# Altium footprint library PcbLib.PcbLib: 13 footprints
Each footprint in its own frame and in the unit in brackets; x right, y up, seen from the top. Pads: shape width x height; smd on the part's side, far side on the other; paste and mask are expansions set on the pad; w line width, h text height; cw(c..) or ccw(c..) is an arc to the next point about the centre after c.
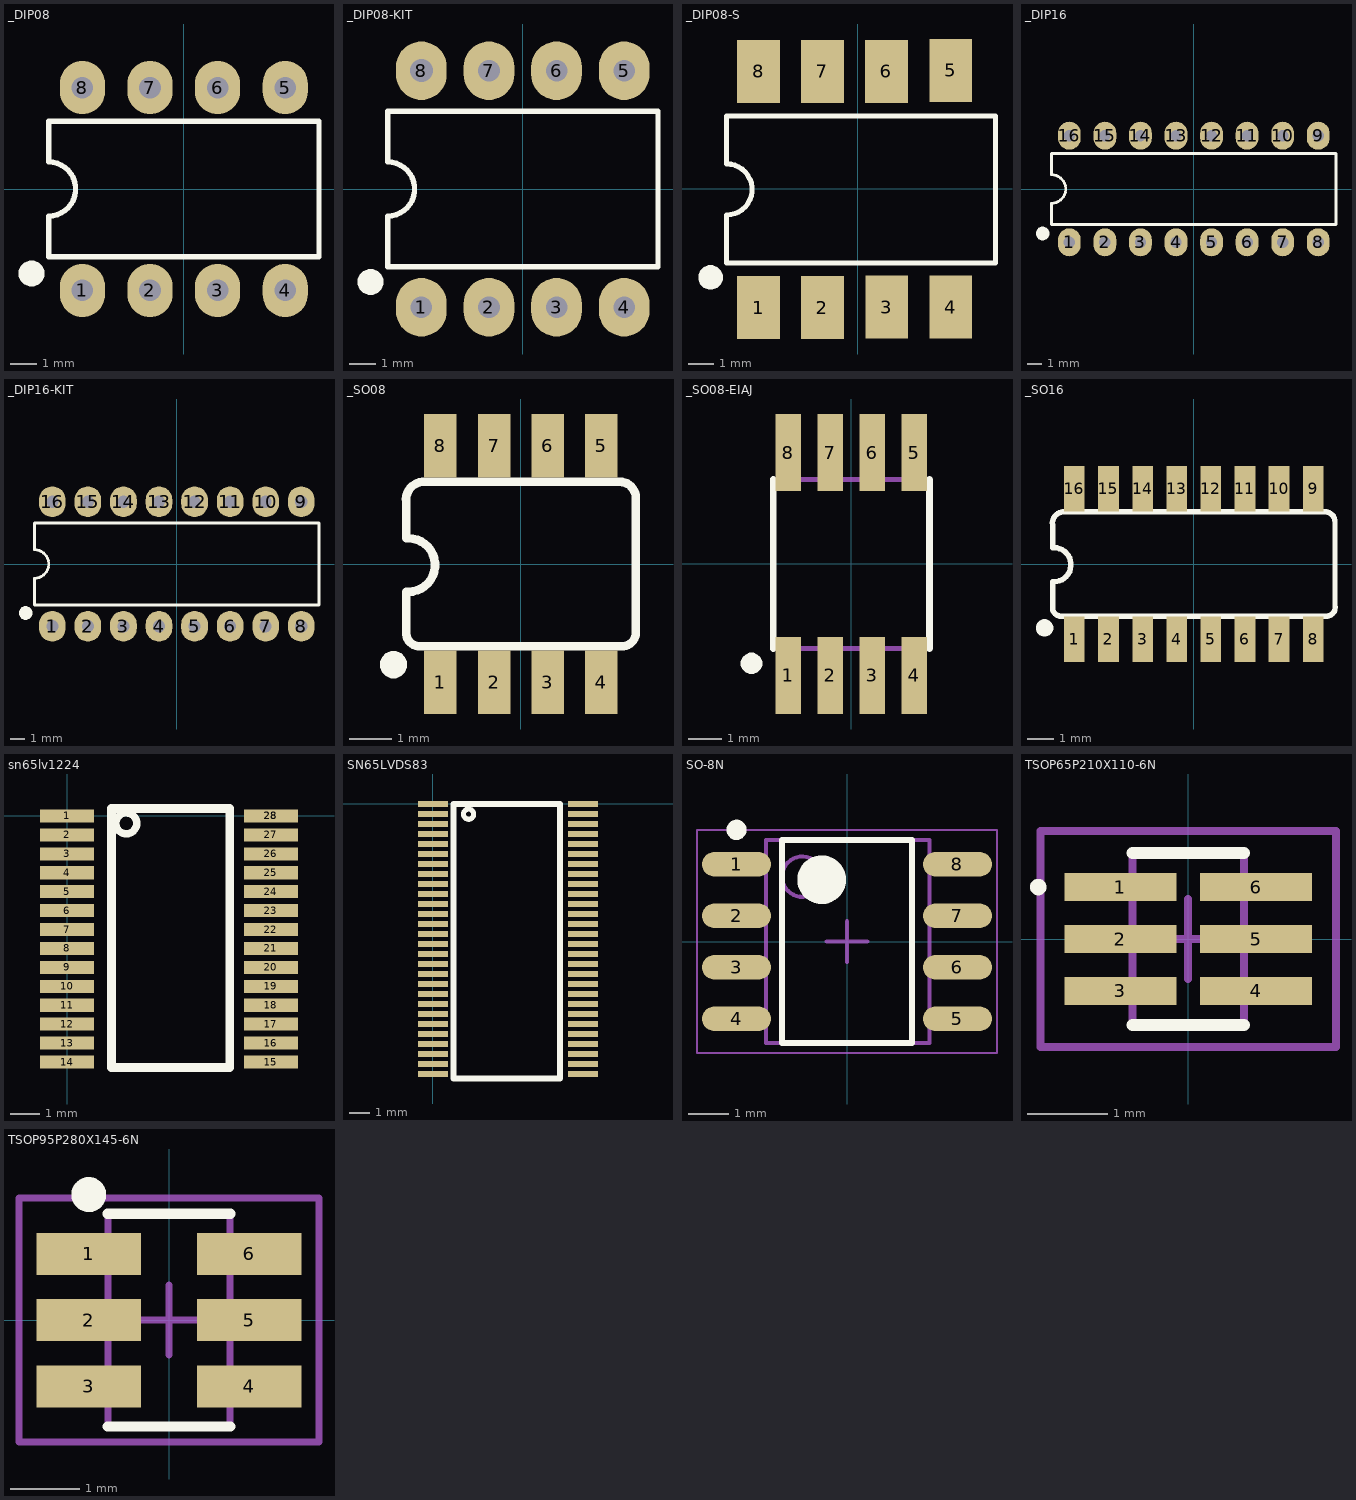
[diagram p0: the footprints below, top view; thin cyan lines are the x and y axes]

## _DIP08 [mm]
pads (8):
  oval 1.7x2 hole 0.813: 1(-3.81,-3.81) 2(-1.27,-3.81) 3(1.27,-3.81) 4(3.81,-3.81) 5(3.81,3.81) 6(1.27,3.81) 7(-1.27,3.81) 8(-3.81,3.81)
Top Overlay:
  region: -6.191,-3.175 -6.191,-3.08 -6.119,-2.905 -5.985,-2.771 -5.81,-2.699 -5.715,-2.699 -5.62,-2.699 -5.445,-2.771 -5.311,-2.905 -5.239,-3.08 -5.239,-3.175 -5.239,-3.27 -5.311,-3.445 -5.445,-3.579 -5.62,-3.651 -5.715,-3.651 -5.81,-3.651 -5.985,-3.579 -6.119,-3.445 -6.191,-3.27
  lines w0.203: -5.08,-2.54 -5.08,-1.016 ccw(c-5.08,0) -5.08,1.016 -5.08,2.54 5.08,2.54 5.08,-2.54 -5.08,-2.54

## _DIP08-KIT [mm]
pads (8):
  oval 1.905x2.2 hole 0.813: 1(-3.81,-4.445) 2(-1.27,-4.445) 3(1.27,-4.445) 4(3.81,-4.445) 5(3.81,4.445) 6(1.27,4.445) 7(-1.27,4.445)
  oval 1.905x2.2 hole 0.864: 8(-3.81,4.445)
Top Overlay:
  region: -6.191,-3.492 -6.191,-3.398 -6.119,-3.223 -5.985,-3.089 -5.81,-3.016 -5.715,-3.016 -5.62,-3.016 -5.445,-3.089 -5.311,-3.223 -5.239,-3.398 -5.239,-3.492 -5.239,-3.587 -5.311,-3.762 -5.445,-3.896 -5.62,-3.969 -5.715,-3.969 -5.81,-3.969 -5.985,-3.896 -6.119,-3.762 -6.191,-3.587
  lines w0.203: -5.08,-2.921 5.08,-2.921 5.08,2.921 -5.08,2.921 -5.08,1.016 cw(c-5.08,0) -5.08,-1.016 -5.08,-2.921
Top Solder:
  circle w0: c3.81,-4.445 r0.432
  circle w0: c1.27,-4.445 r0.432
  circle w0: c-1.27,-4.445 r0.432
  circle w0: c-3.81,-4.445 r0.432
  circle w0: c3.81,4.445 r0.432
  circle w0: c1.27,4.445 r0.432
  circle w0: c-1.27,4.445 r0.432
  circle w0: c-3.81,4.445 r0.432
Bottom Solder:
  circle w0: c3.81,-4.445 r1.067
  circle w0: c1.27,-4.445 r1.067
  circle w0: c-1.27,-4.445 r1.067
  circle w0: c-3.81,-4.445 r1.067
  circle w0: c3.81,4.445 r1.067
  circle w0: c1.27,4.445 r1.067
  circle w0: c-1.27,4.445 r1.067
  circle w0: c-3.81,4.445 r1.067

## _DIP08-S [mm]
pads (8):
  rect 1.7x2.5 smd: 1(-3.95,-4.718) 2(-1.41,-4.718) 3(1.143,-4.699) 4(3.683,-4.699) 5(3.683,4.699) 6(1.13,4.664) 7(-1.41,4.664) 8(-3.95,4.664)
Top Overlay:
  region: -6.331,-3.52 -6.331,-3.425 -6.259,-3.25 -6.125,-3.116 -5.95,-3.043 -5.855,-3.043 -5.76,-3.043 -5.585,-3.116 -5.451,-3.25 -5.379,-3.425 -5.379,-3.52 -5.379,-3.614 -5.451,-3.789 -5.585,-3.923 -5.76,-3.996 -5.855,-3.996 -5.95,-3.996 -6.125,-3.923 -6.259,-3.789 -6.331,-3.614
  lines w0.203: -5.22,-2.948 -5.22,-1.043 ccw(c-5.22,-0.027) -5.22,0.989 -5.22,2.894 5.461,2.894 5.461,-2.948 -5.22,-2.948
Top Solder:
  circle w0: c-3.95,4.664 r0.432
  circle w0: c-1.41,4.664 r0.432
  circle w0: c-3.95,-4.718 r0.432
  circle w0: c-1.41,-4.718 r0.432

## _DIP16 [mil]
pads (16):
  oval 64x78.74 hole 32: 1(-350,-150) 2(-250,-150) 3(-150,-150) 4(-50,-150) 5(50,-150) 6(150,-150) 7(250,-150) 8(350,-150) 9(350,150) 10(250,150) 11(150,150) 12(50,150) 13(-50,150) 14(-150,150) 15(-250,150) 16(-350,150)
Top Overlay:
  region: -443.75,-125 -443.75,-121.27 -440.9,-114.38 -435.62,-109.1 -428.73,-106.25 -425,-106.25 -421.27,-106.25 -414.38,-109.1 -409.1,-114.38 -406.25,-121.27 -406.25,-125 -406.25,-128.73 -409.1,-135.62 -414.38,-140.9 -421.27,-143.75 -425,-143.75 -428.73,-143.75 -435.62,-140.9 -440.9,-135.62 -443.75,-128.73
  lines w8: -400,-100 -400,-40 ccw(c-400,0) -400,40 -400,100 400,100 400,-100 -400,-100

## _DIP16-KIT [mm]
pads (16):
  oval 1.905x2.2 hole 0.864: 1(-8.89,-4.445) 2(-6.35,-4.445) 3(-3.81,-4.445) 4(-1.27,-4.445) 5(1.27,-4.445) 6(3.81,-4.445) 7(6.35,-4.445) 8(8.89,-4.445) 9(8.89,4.445) 10(6.35,4.445) 11(3.81,4.445) 12(1.27,4.445) 13(-1.27,4.445) 14(-3.81,4.445) 15(-6.35,4.445) 16(-8.89,4.445)
Top Overlay:
  region: -11.271,-3.492 -11.271,-3.398 -11.199,-3.223 -11.065,-3.089 -10.89,-3.016 -10.795,-3.016 -10.7,-3.016 -10.525,-3.089 -10.391,-3.223 -10.319,-3.398 -10.319,-3.492 -10.319,-3.587 -10.391,-3.762 -10.525,-3.896 -10.7,-3.969 -10.795,-3.969 -10.89,-3.969 -11.065,-3.896 -11.199,-3.762 -11.271,-3.587
  lines w0.203: -10.16,-2.921 10.16,-2.921 10.16,2.921 -10.16,2.921 -10.16,1.016 cw(c-10.16,0) -10.16,-1.016 -10.16,-2.921
Top Solder:
  circle w0: c-8.89,4.445 r0.432
  circle w0: c-6.35,4.445 r0.432
  circle w0: c-3.81,4.445 r0.432
  circle w0: c-3.81,4.445 r0.432
  circle w0: c-8.89,-4.445 r0.432
  circle w0: c6.35,-4.445 r0.432
  circle w0: c3.81,-4.445 r0.432
  circle w0: c1.27,-4.445 r0.432
  circle w0: c-1.27,-4.445 r0.432
  circle w0: c-3.81,-4.445 r0.432
  circle w0: c-6.35,-4.445 r0.432
  circle w0: c8.89,-4.445 r0.432
  circle w0: c8.89,4.445 r0.432
  circle w0: c6.35,4.445 r0.432
  circle w0: c3.81,4.445 r0.432
  circle w0: c1.27,4.445 r0.432
  circle w0: c-1.27,4.445 r0.432
  circle w0: c-3.81,4.445 r0.432
Bottom Solder:
  circle w0: c-8.89,4.445 r1.067
  circle w0: c-6.35,4.445 r1.067
  circle w0: c-8.89,-4.445 r1.067
  circle w0: c-6.35,-4.445 r1.067
  circle w0: c-3.81,-4.445 r1.067
  circle w0: c-1.27,-4.445 r1.067
  circle w0: c1.27,-4.445 r1.067
  circle w0: c6.35,-4.445 r1.067
  circle w0: c3.81,-4.445 r1.067
  circle w0: c8.89,-4.445 r1.067
  circle w0: c8.89,4.445 r1.067
  circle w0: c6.35,4.445 r1.067
  circle w0: c3.81,4.445 r1.067
  circle w0: c1.27,4.445 r1.067
  circle w0: c-1.27,4.445 r1.067
  circle w0: c-3.81,4.445 r1.067

## _SO08 [mm]
pads (8):
  rect 0.77x1.5 smd: 1(-1.905,-2.8) 2(-0.635,-2.8) 3(0.635,-2.8) 4(1.905,-2.8) 5(1.905,2.8) 6(0.635,2.8) 7(-0.635,2.8) 8(-1.905,2.8)
Top Overlay:
  region: -2.699,-2.381 -2.699,-2.318 -2.747,-2.201 -2.836,-2.112 -2.953,-2.064 -3.016,-2.064 -3.079,-2.064 -3.196,-2.112 -3.285,-2.201 -3.334,-2.318 -3.334,-2.381 -3.334,-2.444 -3.285,-2.561 -3.196,-2.65 -3.079,-2.699 -3.016,-2.699 -2.953,-2.699 -2.836,-2.65 -2.747,-2.561 -2.699,-2.444
  lines w0.203: -2.718,-0.66 -2.718,-1.665 ccw(c-2.387,-1.616) -2.337,-1.946 2.437,-1.946 ccw(c2.387,-1.615) 2.718,-1.565 2.718,1.565 ccw(c2.337,1.566) 2.337,1.946 -2.337,1.946 ccw(c-2.287,1.515) -2.718,1.465 ; -2.718,0.61 -2.718,1.453 ; -2.667,-0.66 ccw(c-2.667,-0.025) -2.667,0.61
Mechanical 16:
  rectangle: -2.159,2.286 -1.651,3.302
  rectangle: 1.651,2.286 2.159,3.302
  rectangle: 0.381,2.286 0.889,3.302
  rectangle: -0.889,2.286 -0.381,3.302
  rectangle: 1.651,-3.302 2.159,-2.273
  rectangle: 0.381,-3.302 0.889,-2.273
  rectangle: -0.889,-3.302 -0.381,-2.273
  rectangle: -2.159,-3.302 -1.651,-2.273

## _SO08-EIAJ [mm]
pads (8):
  rect 0.77x2.33 smd: 1(-1.905,-3.378) 2(-0.635,-3.378) 3(0.635,-3.378) 4(1.905,-3.378) 5(1.905,3.353) 6(0.635,3.353) 7(-0.635,3.353) 8(-1.905,3.353)
Top Overlay:
  region: -2.699,-3.016 -2.699,-2.953 -2.747,-2.836 -2.836,-2.747 -2.953,-2.699 -3.016,-2.699 -3.079,-2.699 -3.196,-2.747 -3.285,-2.836 -3.334,-2.953 -3.334,-3.016 -3.334,-3.079 -3.285,-3.196 -3.196,-3.285 -3.079,-3.334 -3.016,-3.334 -2.953,-3.334 -2.836,-3.285 -2.747,-3.196 -2.699,-3.079
  lines w0.203: -2.362,-2.565 -2.362,2.539 ; 2.362,-2.565 2.362,2.539
Mechanical 16:
  rectangle: -2.083,-3.632 -1.727,-2.616
  rectangle: -0.813,-3.632 -0.457,-2.616
  rectangle: 0.457,-3.632 0.813,-2.616
  rectangle: 1.727,-3.632 2.083,-2.616
  rectangle: -2.083,2.591 -1.727,3.607
  rectangle: -0.813,2.591 -0.457,3.607
  rectangle: 0.457,2.591 0.813,3.607
  rectangle: 1.727,2.591 2.083,3.607
  lines w0.152: -2.362,-2.565 2.362,-2.565 ; -2.362,2.539 2.362,2.539

## _SO16 [mm]
pads (16):
  rect 0.77x1.7 smd: 1(-4.445,-2.8) 2(-3.175,-2.8) 3(-1.905,-2.8) 4(-0.635,-2.8) 5(0.635,-2.8) 6(1.905,-2.8) 7(3.175,-2.8) 8(4.445,-2.8) 9(4.445,2.8) 10(3.175,2.8) 11(1.905,2.8) 12(0.635,2.8) 13(-0.635,2.8) 14(-1.905,2.8) 15(-3.175,2.8) 16(-4.445,2.8)
Top Overlay:
  region: -5.239,-2.381 -5.239,-2.318 -5.287,-2.201 -5.376,-2.112 -5.493,-2.064 -5.556,-2.064 -5.619,-2.064 -5.736,-2.112 -5.825,-2.201 -5.874,-2.318 -5.874,-2.381 -5.874,-2.444 -5.825,-2.561 -5.736,-2.65 -5.619,-2.699 -5.556,-2.699 -5.493,-2.699 -5.376,-2.65 -5.287,-2.561 -5.239,-2.444
  lines w0.203: -5.258,-0.66 -5.258,-1.665 ccw(c-4.927,-1.616) -4.877,-1.946 4.977,-1.946 ccw(c4.927,-1.615) 5.258,-1.565 5.258,1.565 ccw(c4.877,1.566) 4.877,1.946 -4.877,1.946 ccw(c-4.827,1.515) -5.258,1.465 ; -5.258,0.61 -5.258,1.453 ; -5.207,-0.66 ccw(c-5.207,-0.025) -5.207,0.61

## sn65lv1224 [mm]
pads (29):
  rect 1.85x0.45 smd: 1(0,0) 2(0,-0.65) 3(0,-1.3) 4(0,-1.95) 5(0,-2.6) 6(0,-3.25) 7(0,-3.9) 8(0,-4.55) 9(0,-5.2) 10(0,-5.85) 11(0,-6.5) 12(0,-7.15) 13(0,-7.8) 14(0,-8.45) 15(7,-8.45) 16(7,-7.8) 17(7,-7.15) 18(7,-6.5) 19(7,-5.85) 20(7,-5.2) 21(7,-4.55) 22(7,-3.9) 23(7,-3.25) 24(7,-2.6) 25(7,-1.95) 26(7,-1.3) 27(7,-0.65) 28(7,0) 28(7,0)
Top Overlay:
  circle w0.254: c2.032,-0.254 r0.359
  lines w0.3: 1.524,-8.636 1.524,0.254 5.588,0.254 5.588,-8.636 1.524,-8.636

## SN65LVDS83 [mm]
pads (56):
  rect 1.5x0.3 smd: 1(0,0) 2(0,-0.5) 3(0,-1) 4(0,-1.5) 6(0,-2.5) 7(0,-3) 8(0,-3.5) 9(0,-4) 10(0,-4.5) 11(0,-5) 12(0,-5.5) 14(0,-6.5) 15(0,-7) 16(0,-7.5) 17(0,-8) 18(0,-8.5) 19(0,-9) 20(0,-9.5) 22(0,-10.5) 23(0,-11) 24(0,-11.5) 25(0,-12) 26(0,-12.5) 27(0,-13) 28(0,-13.5) 30(7.5,-13) 31(7.5,-12.5) 32(7.5,-12) 34(7.5,-11) 37(7.5,-9.5) 38(7.5,-9) 39(7.5,-8.5) 40(7.5,-8) 41(7.5,-7.5) 42(7.5,-7) 44(7.5,-6) 45(7.5,-5.5) 46(7.5,-5) 47(7.5,-4.5) 48(7.5,-4) 50(7.5,-3) 51(7.5,-2.5) 52(7.5,-2) 54(7.5,-1) 55(7.5,-0.5) 56(7.5,0) GND(0,-10) GND(0,-6) GND(0,-2) GND(7.5,-13.5) GND(7.5,-11.5) GND(7.5,-10.5) GND(7.5,-10) GND(7.5,-6.5) GND(7.5,-3.5) GND(7.5,-1.5)
Top Overlay:
  circle w0.254: c1.778,-0.508 r0.254
  lines w0.3: 1.016,-13.716 6.35,-13.716 6.35,0 1.016,0 1.016,-13.716

## SO-8N [mm] "SOIC, 8-Leads, Body 4/89x3/90mm, Pitch 1/27mm, IPC Medium Density designer:abbas basereh"
height 1.5
pads (8):
  oval 1.7x0.6 smd mask+0.06: 1(-2.725,1.905) 2(-2.725,0.635) 3(-2.725,-0.635) 4(-2.725,-1.905) 5(2.725,-1.905) 6(2.725,-0.635) 7(2.725,0.635) 8(2.725,1.905)
Top Overlay:
  circle w0.25: c-2.725,2.755 r0.125
  circle w0.6: c-0.625,1.525 r0.3
  lines w0.15: -1.6,-2.5 -1.6,2.5 1.6,2.5 1.6,-2.5 -1.6,-2.5
Mechanical 13:
  circle w0.1: c-1.1,1.6 r0.5
  lines w0.1: -2,-2.5 -2,2.5 2.032,2.5 2.032,-2.5 -2,-2.5
Mechanical 15:
  lines w0.05: -3.7,-2.75 -3.7,2.75 3.7,2.75 3.7,-2.75 -3.7,-2.75
  lines w0.1: -0.5,0 0.5,0 ; 0,-0.5 0,0.5
3D body "SOIC127P600X150-8N.step": height 1.5, standoff 0, extent -3,-2.5 3,2.5

## TSOP65P210X110-6N [mm] "TSOP, 6-Leads, Body 2.2x1.4mm (max), Pitch 0.65mm, IPC Medium Density"
height 1.1
pads (6):
  rect 1.4x0.35 smd: 1(-0.85,0.65) 2(-0.85,0) 3(-0.85,-0.65) 4(0.85,-0.65) 5(0.85,0) 6(0.85,0.65)
Top Overlay:
  circle w0.15: c-1.878,0.65 r0.028
  lines w0.15: -0.7,-1.075 0.7,-1.075 ; -0.7,1.075 0.7,1.075
Mechanical 13:
  lines w0.1: -0.7,-1.075 0.7,-1.075 0.7,1.075 -0.7,1.075 -0.7,-1.075
Mechanical 15:
  lines w0.1: -0.5,0 0.5,0 ; 0,-0.5 0,0.5 ; -1.85,-1.35 1.85,-1.35 1.85,1.35 -1.85,1.35 -1.85,-1.35
3D body: height 1.1, standoff 0, extent 0,0 0,0

## TSOP95P280X145-6N [mm] "TSOP, 6-Leads, Body 3.0x1.8mm (max), Pitch 0.95mm, IPC Medium Density"
height 1.45
pads (6):
  rect 1.5x0.6 smd: 1(-1.15,0.95) 2(-1.15,0) 3(-1.15,-0.95) 4(1.15,-0.95) 5(1.15,0) 6(1.15,0.95)
Top Overlay:
  circle w0.25: c-1.15,1.8 r0.125
  lines w0.15: -0.875,-1.525 0.875,-1.525 ; -0.875,1.525 0.875,1.525
Mechanical 13:
  lines w0.1: -0.875,-1.525 0.875,-1.525 0.875,1.525 -0.875,1.525 -0.875,-1.525
Mechanical 15:
  lines w0.1: -0.5,0 0.5,0 ; 0,-0.5 0,0.5 ; -2.15,-1.75 2.15,-1.75 2.15,1.75 -2.15,1.75 -2.15,-1.75
3D body "User Library-SOT23-6.step": height 1.3, standoff 0, extent -1.5,-1.5 1.5,1.5